# Altium schematic symbol library Interfaces RS485.SchLib: 1 symbol
Pins are listed as number, name and electrical type; pins without a type are passive.

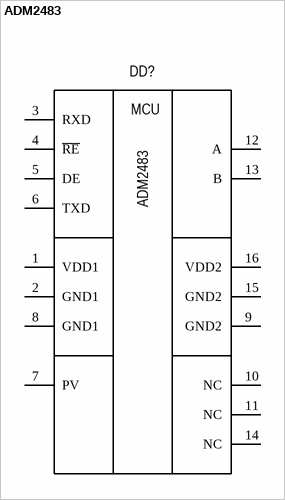
[diagram p0: symbol ADM2483]

## ADM2483
designator DD?
Interface RS485 Transciever ADM2483 SOICW-17; Manufacturer: Analog Devices; Voltage supply: 3.0V - 5.0V; Duplex: Half; Package: SOICW-16; Group: Interface; Part name: ADM2483; Operating temperature: -40°C +85°C; Height: 2.65mm; Dimension: 10.30mm x 10.30mm; Mounting type: Surface mount; Component: RS485; Interface type: RS485
footprint SOIC-16W (7.50mm)
pins: 1 VDD1, 2 GND1, 3 RXD, 4 ~{RE}, 5 DE, 6 TXD, 7 PV, 8 GND1, 9 GND2, 10 NC, 11 NC, 12 A, 13 B, 14 NC, 15 GND2, 16 VDD2
text: MCU